# EAGLE library part AS5048A-HTSP (library encoder)
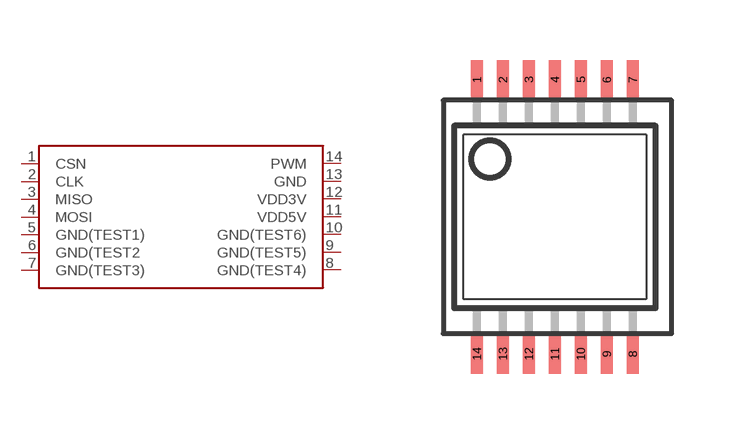
[diagram p1: symbol with the pads of AS5048A-HTSP; footprint AS5048A-HTSP]

Designator prefix U

## AS5048A-HTSP (MF: ams; MOUSER: 985-AS5048A-HTSP-500; MPN: AS5048A-HTSP)  [AS5048A-HTSP]
1  CSN
2  CLK
3  MISO
4  MOSI
5  GND(TEST1)
6  GND(TEST2
7  GND(TEST3)
8  GND(TEST4)
9  GND(TEST5)
10  GND(TEST6)
11  VDD5V
12  VDD3V
13  GND
14  PWM

## Footprint AS5048A-HTSP (pad centres in mm)
smd 0.305 x 0.991: 1 -1.95,3.432; 2 -1.3,3.432; 3 -0.65,3.432; 4 0,3.432; 5 0.65,3.432; 6 1.3,3.432; 7 1.95,3.432; 8 1.95,-3.432; 9 1.3,-3.432; 10 0.65,-3.432; 11 0,-3.432; 12 -0.65,-3.432; 13 -1.3,-3.432; 14 -1.95,-3.432